# Altium schematic symbol library conn8.SchLib: 1 symbol
Pins are listed as number, name and electrical type; pins without a type are passive.

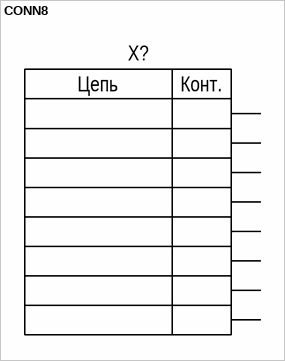
[diagram p0: symbol CONN8]

## CONN8
designator X?  (value not drawn)
pins: 1, 2, 3, 4, 5, 6, 7, 8
text: Цепь; Конт.